# Altium schematic symbol library CY8C4014LQI-421.SchLib: 1 symbol
Pins are listed as number, name and electrical type; pins without a type are passive.

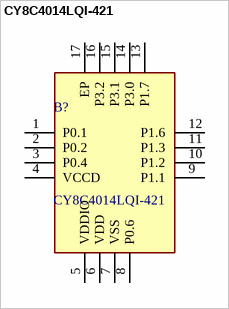
[diagram p0: symbol CY8C4014LQI-421]

## CY8C4014LQI-421
designator B?
Cypress Semiconductor CY8C4014LQI-421, 32bit Microcontroller, CY8C4014, 16MHz, 16 kB Flash, 16-Pin QFN; Manufacturer_Name: Infineon; Geometry.Height: 0.6mm; Manufacturer_Part_Number: CY8C4014LQI-421; Mouser Part Number: 727-CY8C4014LQI-421; Mouser Price/Stock: https://www.mouser.co.uk/ProductDetail/Cypress-Semiconductor/CY8C4014LQI-421?qs=h2odU9YHRxyINW4X3fOvRg%3D%3D; Arrow Part Number: *; Arrow Price/Stock: *; Datasheet Link: http://uk.rs-online.com/web/p/products/1783282
footprint QFN50P300X300X60-17N-D
pins: 1 P0.1, 2 P0.2, 3 P0.4, 4 VCCD, 5 VDDIO, 6 VDD, 7 VSS, 8 P0.6, 9 P1.1, 10 P1.2, 11 P1.3, 12 P1.6, 13 P1.7, 14 P3.0, 15 P3.1, 16 P3.2, 17 EP